# Altium footprint library PCB.PcbLib: 35 footprints (part 1 of 3)
Each footprint in its own frame and in the unit in brackets; x right, y up, seen from the top. Pads: shape width x height; smd on the part's side, far side on the other; paste and mask are expansions set on the pad; w line width, h text height; cw(c..) or ccw(c..) is an arc to the next point about the centre after c.
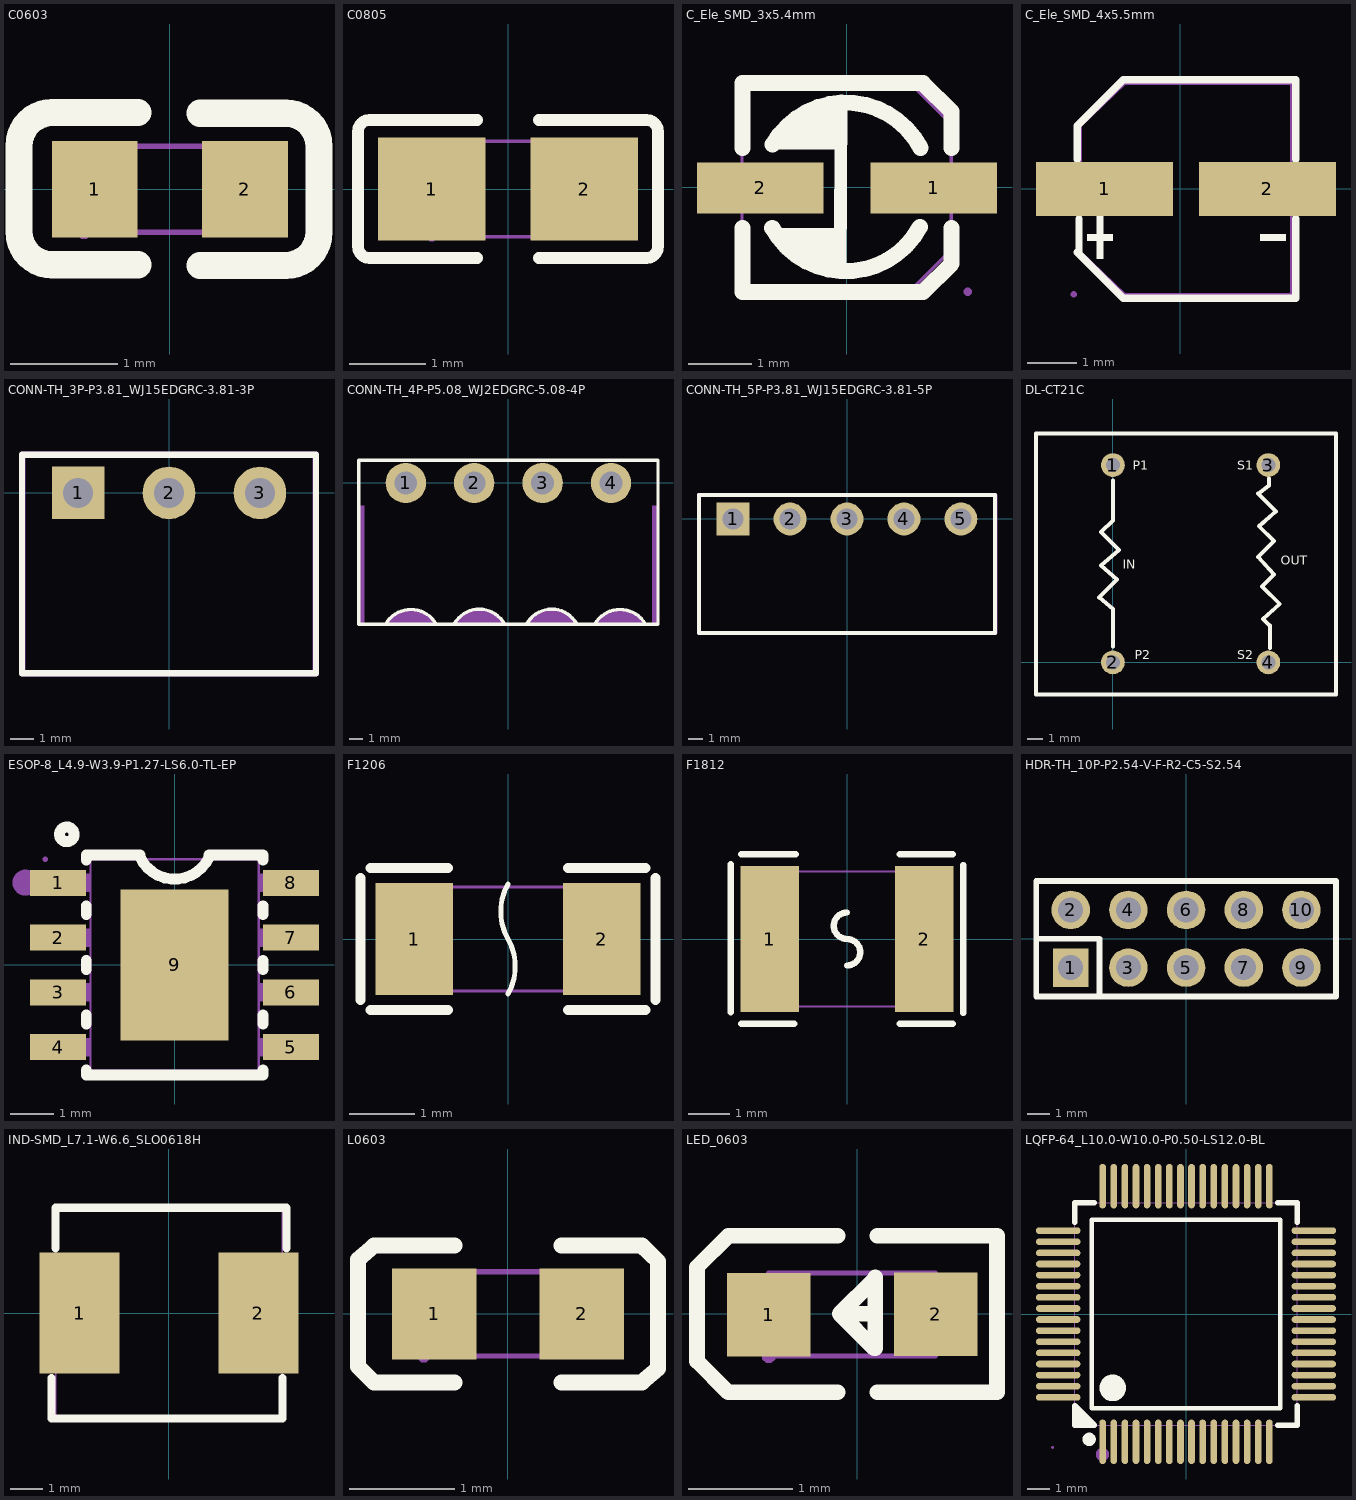
[diagram p0: the footprints below, top view; thin cyan lines are the x and y axes]

## C0603 [mm]
pads (2):
  rect 0.8x0.9 smd: 1(-0.7,0) 2(0.7,0)
Top Overlay:
  lines w0.254: -0.296,-0.704 -1.096,-0.704 cw(c-1.096,-0.394) -1.406,-0.394 -1.405,0.406 cw(c-1.096,0.406) -1.096,0.715 -0.296,0.715 ; 0.28,-0.71 1.08,-0.71 ccw(c1.08,-0.4) 1.39,-0.4 1.39,0.4 ccw(c1.08,0.4) 1.08,0.71 0.28,0.71
Mechanical 15:
  region: -0.8,-0.4 -0.8,0.4 -0.5,0.4 -0.5,-0.4
  region: 0.8,-0.4 0.8,0.4 0.5,0.4 0.5,-0.4
  region: -0.86,-0.4 -0.86,-0.375 -0.825,-0.34 -0.775,-0.34 -0.74,-0.375 -0.74,-0.4 -0.74,-0.425 -0.775,-0.46 -0.825,-0.46 -0.86,-0.425 -0.86,-0.4
  lines w0.051: -0.8,-0.4 -0.8,0.4 0.8,0.4 0.8,-0.4 -0.8,-0.4

## C0805 [mm]
pads (2):
  rect 1.41x1.35 smd paste-100 mask+0.051: 1(-1,0) 2(1,0)
Top Overlay:
  lines w0.152: -0.401,-0.904 -1.811,-0.904 cw(c-1.811,-0.751) -1.964,-0.751 -1.964,0.751 cw(c-1.811,0.751) -1.811,0.904 -0.401,0.904 ; 0.401,-0.904 1.811,-0.904 ccw(c1.811,-0.751) 1.964,-0.751 1.964,0.751 ccw(c1.811,0.751) 1.811,0.904 0.401,0.904
Top Paste:
  region: -1.705,-0.64 -1.705,0.64 -1.655,0.69 -0.505,0.69 -0.455,0.64 -0.45,0.23 -0.9,0.23 -0.9,-0.22 -0.46,-0.22 -0.455,-0.64 -0.505,-0.69 -1.655,-0.69
  region: 1.705,0.64 1.705,-0.64 1.655,-0.69 0.505,-0.69 0.455,-0.64 0.45,-0.23 0.9,-0.23 0.9,0.22 0.46,0.22 0.455,0.64 0.505,0.69 1.655,0.69
Mechanical 15:
  region: -1,-0.565 -0.975,-0.565 -0.94,-0.6 -0.94,-0.65 -0.975,-0.685 -1,-0.685 -1.025,-0.685 -1.06,-0.65 -1.06,-0.6 -1.025,-0.565 -1,-0.565
  region: -1,-0.625 -1,0.625 -0.5,0.625 -0.5,-0.625
  region: 1,0.625 1,-0.625 0.5,-0.625 0.5,0.625
  lines w0.051: -1,-0.625 -1,0.625 1,0.625 1,-0.625 -1,-0.625

## C_Ele_SMD_3x5.4mm [mil]
pads (2):
  rect 78.7x31.5 smd paste+0 mask+2: 1(54.1,-0.55) 2(-53.7,-0.55)
Top Overlay:
  region: -0.2,-52.75 0.2,52.45 -9.6,50.05 -20.3,46.15 -27.4,40.95 -33.3,38.25 -38.4,32.75 -43.1,27.65 -46.3,23.65 -7.3,23.65 -7.7,-25.55 -42.7,-25.55 -40.7,-34.25 -36.4,-39.75 -29.7,-45.65 -22.6,-48.35 -14.8,-50.75 -6.5,-53.15 -0.2,-53.85
  lines w10: -64.8,-25.35 -64.8,-65.35 47.4,-65.35 65.2,-47.55 65.2,-39.75 65.2,-25.35 ; -64.8,24.25 -64.8,64.65 47.4,64.65 65.2,46.85 65.2,39.05 65.2,24.25 ; -46.26,-25.55 ccw(c-0.59,0.04) 45.51,-24.78 ; -45.99,26.36 cw(c-0.59,0.04) 45.87,24.45
Mechanical 6:
  region: 60.5,-1.95 60.5,1.95 44.9,1.95 44.9,-1.95
  region: 54.6,-12.95 54.6,13.05 50.7,13.05 50.7,-12.95
  region: -61.7,-1.95 -61.7,1.95 -46.1,1.95 -46.1,-1.95
Mechanical 15:
  region: 72.8,-65.05 72.8,-66.05 74.21,-67.45 76.2,-67.45 77.6,-66.05 77.6,-65.05 77.6,-64.06 76.2,-62.65 74.21,-62.65 72.8,-64.06 72.8,-65.05
  region: -74.5,-13.35 -74.5,12.25 -15.5,12.25 -15.5,-13.35
  region: 15.9,-13.35 15.9,12.25 74.9,12.25 74.9,-13.35
  lines w2: -65,-64.95 -65,65.05 39,65.05 65,39.05 65,-38.95 39,-64.95 -65,-64.95

## C_Ele_SMD_4x5.5mm [mm]
pads (2):
  rect 2.8x1.1 smd paste+0 mask+0.051: 1(-1.543,0) 2(1.778,0)
Top Overlay:
  region: -1.7,-0.559 -1.7,-1.419 -1.571,-1.419 -1.571,-0.559
  region: -1.894,-0.925 -1.894,-1.054 -1.378,-1.054 -1.378,-0.925
  region: 2.148,-0.925 2.148,-1.054 1.632,-1.054 1.632,-0.925
  lines w0.152: -2.099,-1.29 -1.163,-2.226 2.353,-2.226 2.353,-0.607 ; -2.099,0.607 -2.099,1.29 -1.163,2.226 2.353,2.226 2.353,0.607 ; -2.066,-1.29 -2.066,-0.607
Mechanical 6:
  region: -1.7,0.43 -1.7,-0.43 -1.571,-0.43 -1.571,0.43
  region: -1.894,0.064 -1.894,-0.065 -1.378,-0.065 -1.378,0.064
  region: 2.148,0.064 2.148,-0.065 1.632,-0.065 1.632,0.064
Mechanical 15:
  region: -2.173,0.325 -2.173,-0.325 -0.373,-0.325 -0.373,0.325
  region: 2.427,0.325 2.427,-0.325 0.627,-0.325 0.627,0.325
  region: -2.233,-2.15 -2.233,-2.175 -2.198,-2.21 -2.148,-2.21 -2.113,-2.175 -2.113,-2.15 -2.113,-2.125 -2.148,-2.09 -2.198,-2.09 -2.233,-2.125 -2.233,-2.15
  lines w0.051: -2.033,-1.281 -2.033,1.281 -1.13,2.15 2.267,2.15 2.267,-2.15 -1.13,-2.15 -2.033,-1.281

## CONN-TH_3P-P3.81_WJ15EDGRC-3.81-3P [mm]
pads (3):
  rect 2.2x2.2 hole 1.26: 1(-3.81,0)
  round 2.2 hole 1.26: 2(0,0) 3(3.81,0)
Top Overlay:
  lines w0.254: -6.155,-7.55 6.155,-7.55 6.155,1.6 -6.155,1.6 -6.155,-7.55
Mechanical 6:
  region: 6.155,1.473 -6.155,1.473 -6.208,1.473 -6.282,1.547 -6.282,1.653 -6.208,1.727 -6.155,1.727 6.155,1.727 6.208,1.727 6.282,1.653 6.282,1.547 6.208,1.473 6.155,1.473
  region: -6.028,1.6 -6.028,-7.423 6.028,-7.423 6.028,1.6 6.028,1.653 6.102,1.727 6.208,1.727 6.282,1.653 6.282,1.6 6.282,-7.55 6.282,-7.575 6.263,-7.622 6.227,-7.658 6.18,-7.677 6.155,-7.677 -6.155,-7.677 -6.18,-7.677 -6.227,-7.658 -6.263,-7.622 -6.282,-7.575 -6.282,-7.55 -6.282,1.6 -6.282,1.653 -6.208,1.727 -6.102,1.727 -6.028,1.653 -6.028,1.6
Mechanical 15:
  region: -4.21,0.4 -3.41,0.4 -3.41,-0.4 -4.21,-0.4
  region: -0.4,0.4 0.4,0.4 0.4,-0.4 -0.4,-0.4
  region: 3.41,0.4 4.21,0.4 4.21,-0.4 3.41,-0.4
  region: -6.155,-7.49 -6.179,-7.491 -6.214,-7.526 -6.213,-7.574 -6.179,-7.609 -6.155,-7.61 -6.131,-7.609 -6.096,-7.574 -6.096,-7.526 -6.131,-7.491 -6.155,-7.49
  lines w0.051: -6.155,-7.55 6.155,-7.55 6.155,1.6 -6.155,1.6 -6.155,-7.55

## CONN-TH_4P-P5.08_WJ2EDGRC-5.08-4P [mm]
pads (4):
  round 3 hole 1.7: 1(-7.62,0) 2(-2.54,0) 3(2.54,0) 4(7.62,0)
Top Overlay:
  lines w0.254: -9.096,-10.445 cw(c-7.239,-11.567) -5.368,-10.469 ; -3.989,-10.419 cw(c-2.159,-11.495) -0.306,-10.458 ; 1.351,-10.479 cw(c3.216,-11.495) 5.077,-10.474 ; 6.417,-10.483 cw(c8.296,-11.567) 10.162,-10.461 ; -11.11,-10.5 -11.11,1.7 11.11,1.7 11.11,-10.5 -11.11,-10.5
Mechanical 6:
  drawing of 7 lines, arcs and shapes, not listed
Mechanical 15:
  region: -8.12,0.5 -7.12,0.5 -7.12,-0.5 -8.12,-0.5
  region: 7.12,0.5 8.12,0.5 8.12,-0.5 7.12,-0.5
  region: 2.04,0.5 3.04,0.5 3.04,-0.5 2.04,-0.5
  region: -3.04,0.5 -2.04,0.5 -2.04,-0.5 -3.04,-0.5
  region: -11.11,-10.44 -11.135,-10.44 -11.17,-10.475 -11.17,-10.525 -11.135,-10.56 -11.11,-10.56 -11.085,-10.56 -11.05,-10.525 -11.05,-10.475 -11.085,-10.44 -11.11,-10.44
  lines w0.051: -11.11,-10.5 -11.11,1.7 11.11,1.7 11.11,-10.5 -11.11,-10.5

## CONN-TH_5P-P3.81_WJ15EDGRC-3.81-5P [mm]
pads (5):
  rect 2.2x2.2 hole 1.4: 1(-7.62,0)
  round 2.2 hole 1.4: 2(-3.81,0) 3(0,0) 4(3.81,0) 5(7.62,0)
Top Overlay:
  lines w0.254: -9.906,-7.624 5.842,-7.624 9.906,-7.624 9.906,1.6 -9.906,1.6 -9.906,-7.55
Mechanical 6:
  region: 5.842,-7.497 9.779,-7.497 9.779,1.473 -9.779,1.473 -9.779,-7.55 -9.779,-7.603 -9.853,-7.677 -9.959,-7.677 -10.033,-7.603 -10.033,-7.55 -10.033,1.6 -10.033,1.625 -10.014,1.672 -9.978,1.708 -9.931,1.727 -9.906,1.727 9.906,1.727 9.931,1.727 9.978,1.708 10.014,1.672 10.033,1.625 10.033,1.6 10.033,-7.624 10.033,-7.649 10.014,-7.696 9.978,-7.732 9.931,-7.751 9.906,-7.751 5.842,-7.751 5.789,-7.751 5.715,-7.677 5.715,-7.571 5.789,-7.497 5.842,-7.497
  region: -9.906,-7.497 5.842,-7.497 5.895,-7.497 5.969,-7.571 5.969,-7.677 5.895,-7.751 5.842,-7.751 -9.906,-7.751 -9.959,-7.751 -10.033,-7.677 -10.033,-7.571 -9.959,-7.497 -9.906,-7.497
Mechanical 15:
  region: -9.965,-7.49 -9.989,-7.491 -10.024,-7.526 -10.023,-7.574 -9.989,-7.609 -9.965,-7.61 -9.941,-7.609 -9.906,-7.574 -9.906,-7.526 -9.941,-7.491 -9.965,-7.49
  region: 7.22,0.4 8.02,0.4 8.02,-0.4 7.22,-0.4
  region: 3.41,0.4 4.21,0.4 4.21,-0.4 3.41,-0.4
  region: -0.4,0.4 0.4,0.4 0.4,-0.4 -0.4,-0.4
  region: -4.21,0.4 -3.41,0.4 -3.41,-0.4 -4.21,-0.4
  region: -8.02,0.4 -7.22,0.4 -7.22,-0.4 -8.02,-0.4
  lines w0.051: -9.965,-7.55 -9.965,1.6 9.965,1.6 9.965,-7.55 -9.965,-7.55

## DL-CT21C [mil]
pads (4):
  round 60 hole 36: 1(0,500) 2(0,0) 3(393.7,500) 4(393.7,0)
Top Overlay:
  lines w10: 0,40 0,69.1 0,135 -35,165 -30,170 10,210 -30,245 15,285 -30,330 0,360 0,370 0,435 0,460.9 ; 395,95 380.1,109.9 422.5,147.5 377.5,192.5 407.5,222.5 367.5,267.5 407.5,307.5 370.15,344.85 412.5,382.5 367.5,427.5 395,447.5 395,466.08 ; 397.5,36.25 398,93 ; -194.92,-81.42 564.92,-81.42 564.92,580 -194.92,580 -194.92,-81.42
  text "OUT" at 425,240 h39.37
  text "IN" at 25,230 h39.37
  text "S2" at 315,0 h39.37
  text "P2" at 55,0 h39.37
  text "S1" at 315,480 h39.37
  text "P1" at 50,480 h39.37

## ESOP-8_L4.9-W3.9-P1.27-LS6.0-TL-EP [mm]
pads (9):
  rect 1.3x0.6 smd: 1(-2.7,1.905) 2(-2.7,0.635) 3(-2.7,-0.635) 4(-2.7,-1.905) 5(2.7,-1.905) 6(2.7,-0.635) 7(2.7,0.635) 8(2.7,1.905)
  rect 2.5x3.5 smd: 9(0,0)
Top Overlay:
  circle w0.254: c-2.5,3.03 r0.17
  lines w0.254: -2.05,-2.436 -2.05,-2.55 2.05,-2.55 2.05,-2.436 ; -2.05,-1.374 -2.05,-1.166 ; -2.05,-0.104 -2.05,0.104 ; -2.05,1.166 -2.05,1.374 ; -2.05,2.436 -2.05,2.55 -0.8,2.55 ; -0.8,2.5 ccw(c0,2.875) 0.8,2.5 ; 0.8,2.55 2.05,2.55 2.05,2.436 ; 2.05,-1.374 2.05,-1.166 ; 2.05,-0.104 2.05,0.104 ; 2.05,1.166 2.05,1.374
Mechanical 6:
  circle w0.3: c-3.46,1.91 r0.15
Mechanical 15:
  region: -1.206,-1.65 -1.206,1.65 1.206,1.65 1.206,-1.65
  region: -3,2.115 -2.165,2.115 -2.165,1.695 -3,1.695
  region: -2.175,2.115 -1.94,2.115 -1.94,1.695 -2.175,1.695
  region: -3,0.845 -2.165,0.845 -2.165,0.425 -3,0.425
  region: -2.175,0.845 -1.94,0.845 -1.94,0.425 -2.175,0.425
  region: -3,-0.425 -2.165,-0.425 -2.165,-0.845 -3,-0.845
  region: -2.175,-0.425 -1.94,-0.425 -1.94,-0.845 -2.175,-0.845
  region: -3,-1.695 -2.165,-1.695 -2.165,-2.115 -3,-2.115
  region: -2.175,-1.695 -1.94,-1.695 -1.94,-2.115 -2.175,-2.115
  region: 2.165,-1.695 3,-1.695 3,-2.115 2.165,-2.115
  region: 1.94,-1.695 2.175,-1.695 2.175,-2.115 1.94,-2.115
  region: 2.165,-0.425 3,-0.425 3,-0.845 2.165,-0.845
  region: 1.94,-0.425 2.175,-0.425 2.175,-0.845 1.94,-0.845
  region: 2.165,0.845 3,0.845 3,0.425 2.165,0.425
  region: 1.94,0.845 2.175,0.845 2.175,0.425 1.94,0.425
  region: 2.165,2.115 3,2.115 3,1.695 2.165,1.695
  region: 1.94,2.115 2.175,2.115 2.175,1.695 1.94,1.695
  region: -2.94,2.45 -2.94,2.474 -2.975,2.509 -3.024,2.509 -3.059,2.474 -3.06,2.45 -3.059,2.426 -3.024,2.392 -2.975,2.392 -2.94,2.426 -2.94,2.45
  lines w0.051: -1.95,-2.45 -1.95,2.45 1.95,2.45 1.95,-2.45 -1.95,-2.45

## F1206 [mm]
pads (2):
  rect 1.19x1.728 smd: 1(-1.445,0) 2(1.445,0)
Top Overlay:
  lines w0.076: 0,-0.845 ccw(c-0.732,-0.422) 0,0 cw(c0.732,0.422) 0,0.845
  lines w0.152: -2.269,-0.94 -2.269,0.94 ; -2.116,-1.093 -0.926,-1.093 ; -2.116,1.093 -0.926,1.093 ; 0.926,-1.093 2.116,-1.093 ; 0.926,1.093 2.116,1.093 ; 2.269,-0.94 2.269,0.94
Mechanical 15:
  region: 1.1,-0.8 1.6,-0.8 1.6,0.8 1.1,0.8
  region: -1.6,-0.8 -1.1,-0.8 -1.1,0.8 -1.6,0.8
  region: -1.66,-0.8 -1.66,-0.825 -1.625,-0.86 -1.575,-0.86 -1.54,-0.825 -1.54,-0.8 -1.54,-0.775 -1.575,-0.74 -1.625,-0.74 -1.66,-0.775 -1.66,-0.8
  lines w0.051: -1.6,-0.8 -1.6,0.8 1.6,0.8 1.6,-0.8 -1.6,-0.8

## F1812 [mm]
pads (2):
  rect 1.407x3.499 smd paste-100 mask+0.051: 1(-1.853,0) 2(1.853,0)
Top Overlay:
  lines w0.152: -2.794,-1.758 -2.794,1.798 ; -2.54,-2.032 -1.27,-2.032 ; -2.54,2.032 -1.235,2.032 ; 0,-0.635 ccw(c0,-0.318) 0,0 cw(c0,0.318) 0,0.635 ; 1.27,-2.032 2.54,-2.032 ; 1.27,2.032 2.54,2.032 ; 2.794,-1.778 2.794,1.778
Top Paste:
  region: 1.15,-1.65 1.15,-0.695 1.25,-0.595 1.528,-0.595 1.628,-0.495 1.628,0.495 1.528,0.595 1.25,0.595 1.15,0.695 1.15,1.65 1.25,1.75 2.457,1.75 2.557,1.65 2.557,-1.65 2.457,-1.75 1.25,-1.75
  region: -1.15,-1.65 -1.15,-0.695 -1.25,-0.595 -1.528,-0.595 -1.628,-0.495 -1.628,0.495 -1.528,0.595 -1.25,0.595 -1.15,0.695 -1.15,1.65 -1.25,1.75 -2.457,1.75 -2.557,1.65 -2.557,-1.65 -2.457,-1.75 -1.25,-1.75
Mechanical 15:
  region: -2.275,-1.68 -2.25,-1.68 -2.215,-1.645 -2.215,-1.595 -2.25,-1.56 -2.275,-1.56 -2.3,-1.56 -2.335,-1.595 -2.335,-1.645 -2.3,-1.68 -2.275,-1.68
  region: -2.275,-1.62 -2.275,1.62 -1.525,1.62 -1.525,-1.62
  region: 2.275,-1.62 2.275,1.62 1.525,1.62 1.525,-1.62
  lines w0.051: -2.275,-1.62 -2.275,1.62 2.275,1.62 2.275,-1.62 -2.275,-1.62

## HDR-TH_10P-P2.54-V-F-R2-C5-S2.54 [mm]
pads (10):
  rect 1.575x1.7 hole 1.1: 1(-5.08,-1.27)
  round 1.7 hole 1.1: 2(-5.08,1.27) 3(-2.54,-1.27) 4(-2.54,1.27) 5(0,-1.27) 6(0,1.27) 7(2.54,-1.27) 8(2.54,1.27) 9(5.08,-1.27) 10(5.08,1.27)
Top Overlay:
  lines w0.254: -6.604,-2.54 -6.604,0 -3.81,0 -3.81,-2.54 -6.604,-2.54 ; -6.604,-2.54 -6.604,2.54 6.604,2.54 6.604,-2.54 -6.604,-2.54
Mechanical 15:
  region: 4.76,1.47 5.4,1.47 5.4,1.07 4.76,1.07
  region: 4.76,-1.07 5.4,-1.07 5.4,-1.47 4.76,-1.47
  region: 2.22,1.47 2.86,1.47 2.86,1.07 2.22,1.07
  region: 2.22,-1.07 2.86,-1.07 2.86,-1.47 2.22,-1.47
  region: -0.32,1.47 0.32,1.47 0.32,1.07 -0.32,1.07
  region: -0.32,-1.07 0.32,-1.07 0.32,-1.47 -0.32,-1.47
  region: -2.86,1.47 -2.22,1.47 -2.22,1.07 -2.86,1.07
  region: -2.86,-1.07 -2.22,-1.07 -2.22,-1.47 -2.86,-1.47
  region: -5.4,1.47 -4.76,1.47 -4.76,1.07 -5.4,1.07
  region: -5.4,-1.47 -5.4,-1.07 -4.76,-1.07 -4.76,-1.47
  region: -6.49,-2.5 -6.49,-2.475 -6.525,-2.44 -6.575,-2.44 -6.61,-2.475 -6.61,-2.5 -6.61,-2.525 -6.575,-2.56 -6.525,-2.56 -6.49,-2.525 -6.49,-2.5
  lines w0.051: -6.55,-2.5 6.55,-2.5 6.55,2.5 -6.55,2.5 -6.55,-2.5

## IND-SMD_L7.1-W6.6_SLO0618H [mm]
pads (2):
  rect 2.5x3.8 smd: 1(-2.8,0) 2(2.8,0)
Top Overlay:
  lines w0.254: -3.683,-2.032 -3.683,-3.302 3.556,-3.302 3.556,-2.032 ; -3.556,2.032 -3.556,3.302 3.683,3.302 3.683,2.032
Mechanical 15:
  region: -3.55,1.5 -1.85,1.5 -1.85,-1.5 -3.55,-1.5
  region: 1.85,1.5 3.55,1.5 3.55,-1.5 1.85,-1.5
  region: -3.61,-3.3 -3.609,-3.324 -3.574,-3.358 -3.526,-3.358 -3.491,-3.324 -3.49,-3.3 -3.491,-3.276 -3.526,-3.242 -3.574,-3.242 -3.609,-3.276 -3.61,-3.3
  lines w0.051: -3.55,-3.3 -3.55,3.3 3.55,3.3 3.55,-3.3 -3.55,-3.3

## L0603 [mm]
pads (2):
  rect 0.8x0.864 smd paste-100 mask+0.051: 1(-0.7,0) 2(0.7,0)
Top Overlay:
  lines w0.152: -1.272,-0.65 -0.51,-0.65 ; -1.272,0.65 -0.51,0.65 ; -1.27,-0.651 -1.424,-0.499 -1.424,0.517 -1.27,0.65 ; 0.51,-0.65 1.272,-0.65 ; 0.51,0.65 1.272,0.65 ; 1.27,-0.65 1.424,-0.517 1.424,0.499 1.27,0.65
Top Paste:
  region: 0.264,0.154 0.264,-0.122 0.538,-0.416 1.042,-0.416 1.106,-0.352 1.106,0.384 1.042,0.448 0.538,0.448
  region: -0.252,0.143 -0.252,-0.134 -0.526,-0.427 -1.029,-0.427 -1.093,-0.363 -1.093,0.373 -1.029,0.437 -0.526,0.437
Mechanical 15:
  region: -0.5,-0.4 -0.8,-0.4 -0.8,0.4 -0.5,0.4
  region: 0.8,-0.4 0.5,-0.4 0.5,0.4 0.8,0.4
  region: -0.8,-0.46 -0.776,-0.459 -0.742,-0.424 -0.742,-0.376 -0.776,-0.341 -0.8,-0.34 -0.824,-0.341 -0.858,-0.376 -0.858,-0.424 -0.824,-0.459 -0.8,-0.46
  lines w0.051: -0.8,-0.4 -0.8,0.4 0.8,0.4 0.8,-0.4 -0.8,-0.4

## LED_0603 [mil]
pads (2):
  rect 31.5x31.5 smd paste+0 mask+2: 1(-33.5,-0.4) 2(29.5,-0.2)
Top Overlay:
  lines w5.9: -7.5,-29.7 -48.8,-29.7 -60.6,-17.9 -60.6,-13.9 -60.6,13.6 -60.6,17.6 -48.8,29.4 -7.5,29.4 ; 6.7,0 -6.7,0 ; 7.5,-29.6 52.7,-29.6 ; 7.5,29.5 52.7,29.5 52.7,-28.8 ; -6.7,0 6.3,-13 6.7,-13 6.7,13.7 6.7,13.3 -6.7,0
Mechanical 6:
  region: 18.8,2.4 40.1,2.4 40.1,-2.7 18.8,-2.7
  region: 26.9,-10.8 26.9,10.4 32,10.4 32,-10.8
  region: -44.1,2.1 -22.9,2.1 -22.9,-3 -44.1,-3
Mechanical 15:
  region: -35.9,-16.2 -35.9,-17.2 -34.49,-18.6 -32.5,-18.6 -31.1,-17.2 -31.1,-16.2 -31.1,-15.21 -32.5,-13.8 -34.49,-13.8 -35.9,-15.21 -35.9,-16.2
  region: 17.7,-15.9 17.7,15.6 29.5,15.6 29.5,-15.9
  region: -33.5,-16.2 -33.5,15.3 -21.7,15.3 -21.7,-16.2
  lines w2: -33.5,-16 -33.5,15.4 29.5,15.4 29.5,-16 -33.5,-16

## LQFP-64_L10.0-W10.0-P0.50-LS12.0-BL [mm]
pads (64):
  oval 0.3x2 smd: 1(-3.75,-5.75) 2(-3.25,-5.75) 3(-2.75,-5.75) 4(-2.25,-5.75) 5(-1.75,-5.75) 6(-1.25,-5.75) 7(-0.75,-5.75) 8(-0.25,-5.75) 9(0.25,-5.75) 10(0.75,-5.75) 11(1.25,-5.75) 12(1.75,-5.75) 13(2.25,-5.75) 14(2.75,-5.75) 15(3.25,-5.75) 16(3.75,-5.75) 33(3.75,5.75) 34(3.25,5.75) 35(2.75,5.75) 36(2.25,5.75) 37(1.75,5.75) 38(1.25,5.75) 39(0.75,5.75) 40(0.25,5.75) 41(-0.25,5.75) 42(-0.75,5.75) 43(-1.25,5.75) 44(-1.75,5.75) 45(-2.25,5.75) 46(-2.75,5.75) 47(-3.25,5.75) 48(-3.75,5.75)
  oval 2x0.3 smd: 17(5.75,-3.75) 18(5.75,-3.25) 19(5.75,-2.75) 20(5.75,-2.25) 21(5.75,-1.75) 22(5.75,-1.25) 23(5.75,-0.75) 24(5.75,-0.25) 25(5.75,0.25) 26(5.75,0.75) 27(5.75,1.25) 28(5.75,1.75) 29(5.75,2.25) 30(5.75,2.75) 31(5.75,3.25) 32(5.75,3.75) 49(-5.75,3.75) 50(-5.75,3.25) 51(-5.75,2.75) 52(-5.75,2.25) 53(-5.75,1.75) 54(-5.75,1.25) 55(-5.75,0.75) 56(-5.75,0.25) 57(-5.75,-0.25) 58(-5.75,-0.75) 59(-5.75,-1.25) 60(-5.75,-1.75) 61(-5.75,-2.25) 62(-5.75,-2.75) 63(-5.75,-3.25) 64(-5.75,-3.75)
Top Overlay:
  region: -4.131,-5 -5,-4.131 -5,-5
  lines w0.2: -4.25,-4.25 -4.25,4.25 4.25,4.25 4.25,-4.25 -4.25,-4.25
  lines w0.254: -5,4.131 -5,5 -4.131,5 ; 4.131,-5 5,-5 5,-4.131 ; 4.131,5 5,5 5,4.131 ; -5,-4.131 -5,-4.131 ; -5,-4.131 -4.131,-5 -5,-5 -5,-4.131
  lines w0.3: -4.361,-5.49 ccw(c-4.36,-5.64) -4.359,-5.49
  lines w0.6: -3.299,-3.025 ccw(c-3.297,-3.325) -3.294,-3.025
Mechanical 6:
  circle w0.3: c-3.76,-6.32 r0.15
Mechanical 15:
  drawing of 133 lines, arcs and shapes, not listed